# Altium integrated library Analog Devices Data Converters Analog-to-Digital Converters.IntLib: 2404 symbols (part 335 of 346)
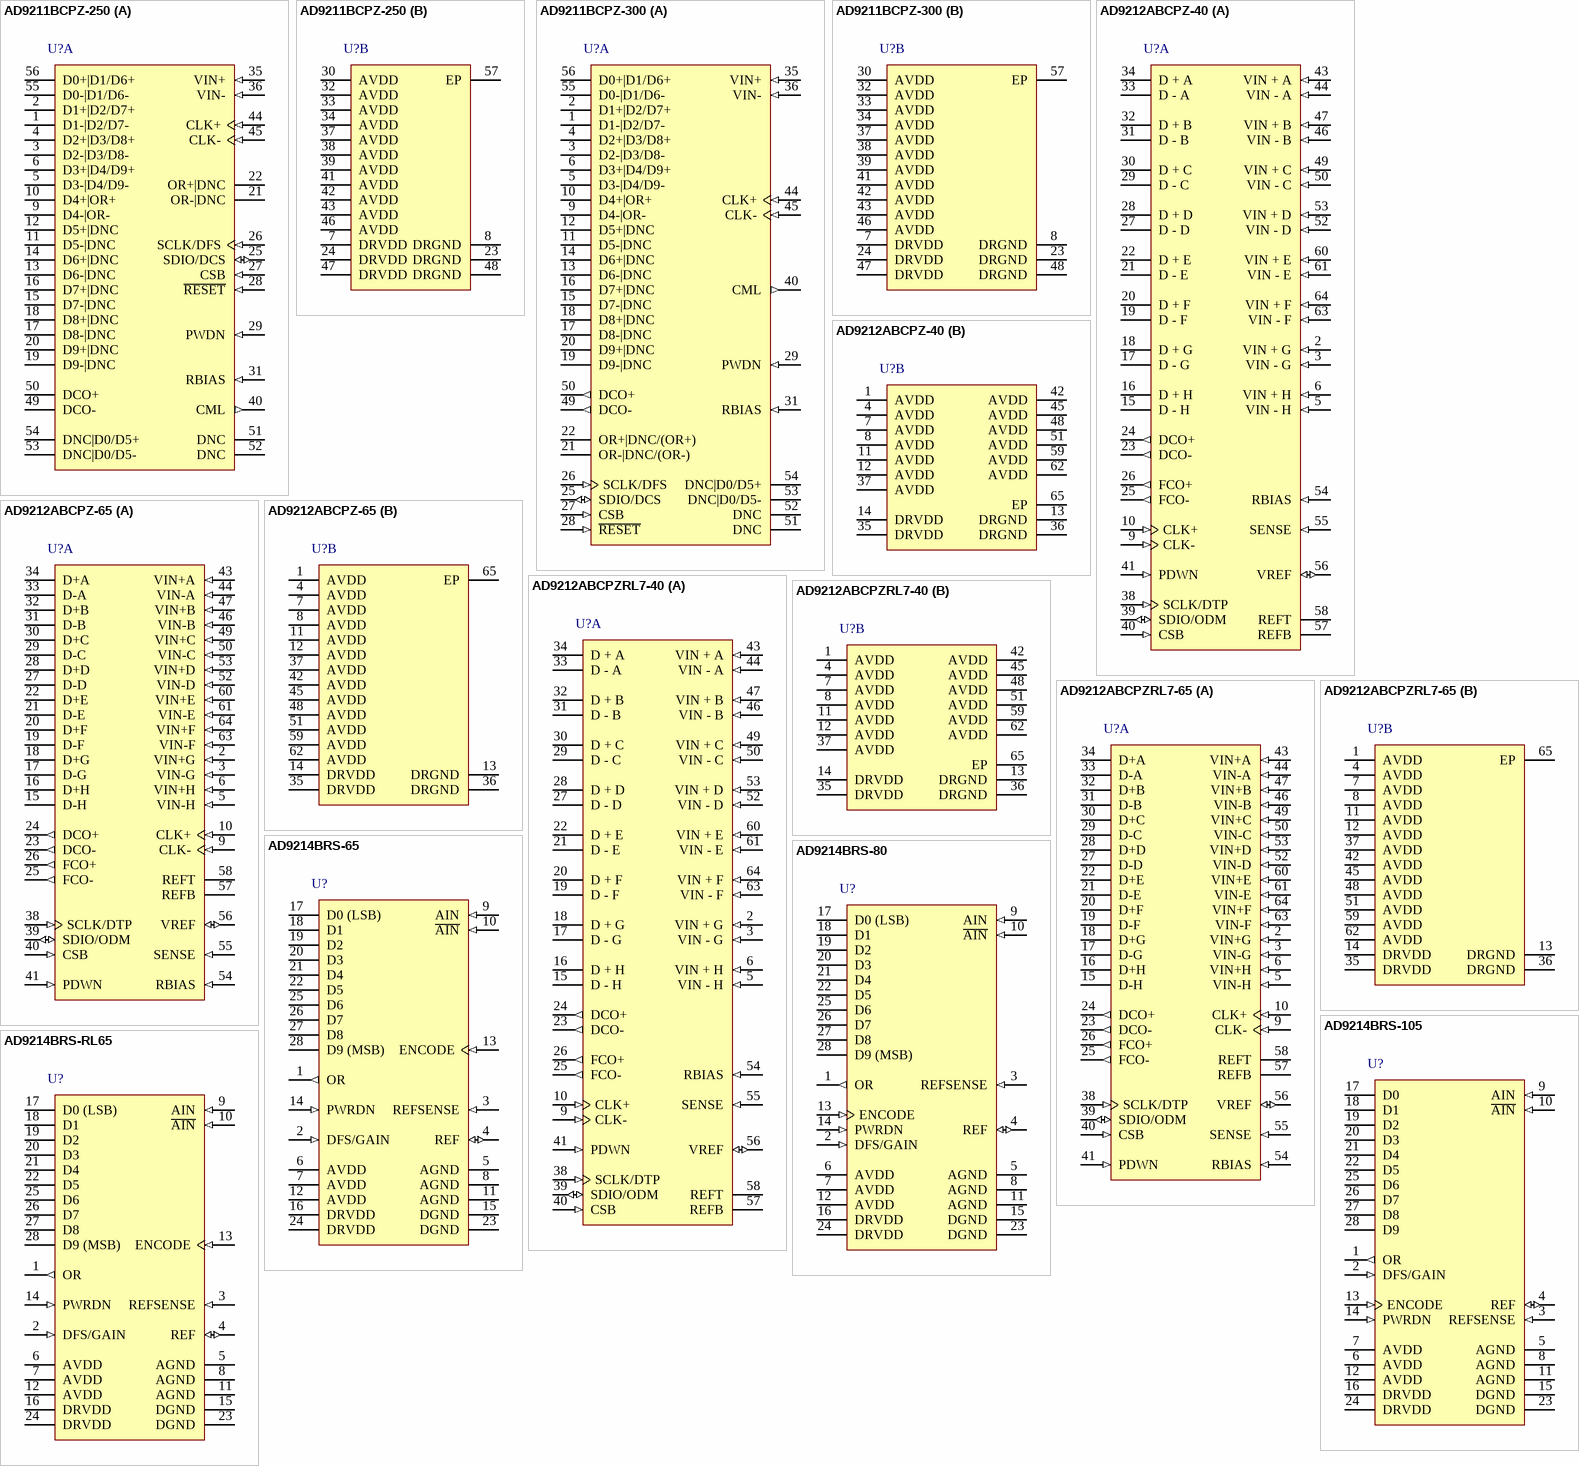
[diagram p334: symbols AD9211BCPZ-250 to AD9214BRS-RL65]

## AD9212ABCPZ-65
designator U?
Octal 10-Bit Analog-to-Digital Converter with LVDS, Serial Interface, 1.8 V 65MSPS, -40 to +85 degC, CP-64-6, Pb-Free, Tray; Generic Part Number: AD9212-65; Manufacturer: Analog Devices; PartNumber: AD9212ABCPZ-65; Resolution (Bits): 10; Channels: 8; Throughput Rate (SPS): 65M; DatasheetVersion: Rev.E; PackageVersion: 041509-A; PackageReference: CP-64-6; PackageDescription: 64-Lead Lead Frame Chip Scale Package [LFCSP_VQ] 9 x 9 mm Body, Very Thin Quad; Supplier 1: Digi-Key; Supplier Part Number 1: AD9212ABCPZ-65-ND; Supplier 2: Newark; Supplier Part Number 2: 70R1852; Supplier 3: Mouser; Supplier Part Number 3: 584-AD9212ABCPZ-65; Interface: LVDS, Ser; RoHS: Y; Packing: Tray; Mounting Technology: Surface Mount; Code_JEDEC: MO-220-VMMD-4; ComponentLink1Description: Manufacturer URL; ComponentLink1URL: http://www.analog.com/en/index.html; ComponentLink2Description: Datasheet; ComponentLink2URL: http://www.analog.com/static/imported-files/data_sheets/AD9212.pdf; ComponentLink3Description: Package Specification; ComponentLink3URL: http://www.analog.com/static/imported-files/packages/PKG_PDF/LFCSP(CP)/CP_64_6.pdf; ComponentLink4Description: Product URL; ComponentLink4URL: http://www.analog.com/en/analog-to-digital-converters/ad-converters/ad9212/products/product.html
footprint CP-64-6_N (QFN, 64-Leads, Body 9x9mm, Pitch 0.5mm, Thermal Pad 7.5x7.5mm, IPC Medium Density)
footprint CP-64-6_L (QFN, 64-Leads, Body 9x9mm, Pitch 0.5mm, Thermal Pad 7.5x7.5mm, IPC High Density)
footprint CP-64-6_M (QFN, 64-Leads, Body 9x9mm, Pitch 0.5mm, Thermal Pad 7.5x7.5mm, IPC Low Density)
part A pins: 2 VIN+G (in) "ADC G Analog Input True.", 3 VIN-G (in) "ADC G Analog Input Complement.", 5 VIN-H (in) "ADC H Analog Input Complement.", 6 VIN+H (in) "ADC H Analog Input True.", 9 CLK- (in) "Input Clock Complement", 10 CLK+ (in) "Input Clock True.", 15 D-H (hiz) "ADC H Digital Output Complement.", 16 D+H (hiz) "ADC H Digital Output True.", 17 D-G (hiz) "ADC G Digital Output Complement", 18 D+G (hiz) "ADC G Digital Output True.", 19 D-F (hiz) "ADC F Digital Output Complement", 20 D+F (hiz) "ADC F Digital Output True.", 21 D-E (hiz) "ADC E Digital Output Complement", 22 D+E (hiz) "ADC E Digital Output True.", 23 DCO- (out) "Data Clock Digital Output Complement", 24 DCO+ (out) "Data Clock Digital Output True.", 25 FCO- (out) "Frame Clock Digital Output Complement", 26 FCO+ (out) "Frame Clock Digital Output True.", 27 D-D (hiz) "ADC D Digital Output Complement", 28 D+D (hiz) "ADC D Digital Output True.", 29 D-C (hiz) "ADC C Digital Output Complement", 30 D+C (hiz) "ADC C Digital Output True.", 31 D-B (hiz) "ADC B Digital Output Complement", 32 D+B (hiz) "ADC B Digital Output True.", 33 D-A (hiz) "ADC A Digital Output Complement", 34 D+A (hiz) "ADC A Digital Output True.", 38 SCLK/DTP (in) "Serial Clock/Digital Test Pattern", 39 SDIO/ODM (io) "Serial Data Input-Output/Output Driver Mode", 40 CSB (in) "Chip Select Bar.", 41 PDWN (in) "Power-Down.", 43 VIN+A (in) "ADC A Analog Input True", 44 VIN-A (in) "ADC A Analog Input Complement.", 46 VIN-B (in) "ADC B Analog Input Complement", 47 VIN+B (in) "ADC B Analog Input True.", 49 VIN+C (in) "ADC C Analog Input True", 50 VIN-C (in) "ADC C Analog Input Complement.", 52 VIN-D (in) "ADC D Analog Input Complement", 53 VIN+D (in) "ADC D Analog Input True.", 54 RBIAS (in) "External Resistor to Set the Internal ADC Core Bias Current", 55 SENSE (in) "Reference Mode Selection", 56 VREF (io) "Voltage Reference Input/Output", 57 REFB "Negative Differential Reference", 58 REFT "Positive Differential Reference", 60 VIN+E (in) "ADC E Analog Input True", 61 VIN-E (in) "ADC E Analog Input Complement.", 63 VIN-F (in) "ADC F Analog Input Complement", 64 VIN+F (in) "ADC F Analog Input True."
part B pins: 1 AVDD (power) "1.8 V Analog Supply.", 4 AVDD (power) "1.8 V Analog Supply.", 7 AVDD (power) "1.8 V Analog Supply.", 8 AVDD (power) "1.8 V Analog Supply.", 11 AVDD (power) "1.8 V Analog Supply.", 12 AVDD (power) "1.8 V Analog Supply.", 13 DRGND (power) "Digital Output Driver Ground", 14 DRVDD (power) "1.8 V Digital Output Driver Supply.", 35 DRVDD (power) "1.8 V Digital Output Driver Supply.", 36 DRGND (power) "Digital Output Driver Ground", 37 AVDD (power) "1.8 V Analog Supply.", 42 AVDD (power) "1.8 V Analog Supply.", 45 AVDD (power) "1.8 V Analog Supply.", 48 AVDD (power) "1.8 V Analog Supply.", 51 AVDD (power) "1.8 V Analog Supply.", 59 AVDD (power) "1.8 V Analog Supply.", 62 AVDD (power) "1.8 V Analog Supply.", 65 EP (power) "Analog Ground (Exposed Paddle)"

## AD9212ABCPZRL7-40
designator U?
Octal 10-Bit Analog-to-Digital Converter with LVDS, Serial Interface, 1.8 V, 40MSPS, -40 to +85 degC, CP-64-6, Pb-Free, Reel; Generic Part Number: AD9212-40; Manufacturer: Analog Devices; PartNumber: AD9212ABCPZRL7-40; Resolution (Bits): 10; Channels: 8; Throughput Rate (SPS): 40M; DatasheetVersion: Rev.E; PackageVersion: 041509-A; PackageReference: CP-64-6; PackageDescription: 64-Lead Lead Frame Chip Scale Package [LFCSP_VQ] 9 x 9 mm Body, Very Thin Quad; Supplier 1: Digi-Key; Supplier Part Number 1: AD9212ABCPZRL7-40-ND; Supplier 2: Mouser; Supplier Part Number 2: 584-AD9212ABCPZR7-40; Interface: LVDS, Ser; RoHS: Y; Packing: Reel; Mounting Technology: Surface Mount; Code_JEDEC: MO-220-VMMD-4; ComponentLink1Description: Manufacturer URL; ComponentLink1URL: http://www.analog.com/en/index.html; ComponentLink2Description: Datasheet; ComponentLink2URL: http://www.analog.com/static/imported-files/data_sheets/AD9212.pdf; ComponentLink3Description: Package Specification; ComponentLink3URL: http://www.analog.com/static/imported-files/packages/PKG_PDF/LFCSP(CP)/CP_64_6.pdf; ComponentLink4Description: Product URL; ComponentLink4URL: http://www.analog.com/en/analog-to-digital-converters/ad-converters/ad9212/products/product.html
footprint CP-64-6_N (QFN, 64-Leads, Body 9x9mm, Pitch 0.5mm, Thermal Pad 7.5x7.5mm, IPC Medium Density)
footprint CP-64-6_L (QFN, 64-Leads, Body 9x9mm, Pitch 0.5mm, Thermal Pad 7.5x7.5mm, IPC High Density)
footprint CP-64-6_M (QFN, 64-Leads, Body 9x9mm, Pitch 0.5mm, Thermal Pad 7.5x7.5mm, IPC Low Density)
part A pins: 2 VIN + G (in) "ADC G Analog Input True", 3 VIN - G (in) "ADC G Analog Input Complement", 5 VIN - H (in) "ADC H Analog Input Complement", 6 VIN + H (in) "ADC H Analog Input True", 9 CLK- (in) "Input Clock Complement", 10 CLK+ (in) "Input Clock True", 15 D - H (hiz) "ADC H Digital Output Complement", 16 D + H (hiz) "ADC H Digital Output True", 17 D - G (hiz) "ADC G Digital Output Complement", 18 D + G (hiz) "ADC G Digital Output True", 19 D - F (hiz) "ADC F Digital Output Complement", 20 D + F (hiz) "ADC F Digital Output True", 21 D - E (hiz) "ADC E Digital Output Complement", 22 D + E (hiz) "ADC E Digital Output True", 23 DCO- (out) "Data Clock Digital Output Complement", 24 DCO+ (out) "Data Clock Digital Output True", 25 FCO- (out) "Frame Clock Digital Output Complement", 26 FCO+ (out) "Frame Clock Digital Output True", 27 D - D (hiz) "ADC D Digital Output Complement", 28 D + D (hiz) "ADC D Digital Output True", 29 D - C (hiz) "ADC C Digital Output Complement", 30 D + C (hiz) "ADC C Digital Output True", 31 D - B (hiz) "ADC B Digital Output Complement", 32 D + B (hiz) "ADC B Digital Output True", 33 D - A (hiz) "ADC A Digital Output Complement", 34 D + A (hiz) "ADC A Digital Output True", 38 SCLK/DTP (in) "Serial Clock/Digital Test Pattern", 39 SDIO/ODM (io) "Serial Data Input-Output/Output Driver Mode", 40 CSB (in) "Chip Select Bar", 41 PDWN (in) "Power-Down", 43 VIN + A (in) "ADC A Analog Input True", 44 VIN - A (in) "ADC A Analog Input Complement", 46 VIN - B (in) "ADC B Analog Input Complement", 47 VIN + B (in) "ADC B Analog Input True", 49 VIN + C (in) "ADC C Analog Input True", 50 VIN - C (in) "ADC C Analog Input Complement", 52 VIN - D (in) "ADC D Analog Input Complement", 53 VIN + D (in) "ADC D Analog Input True", 54 RBIAS (in) "External Resistor to Set the Internal ADC Core Bias Current", 55 SENSE (in) "Reference Mode Selection", 56 VREF (io) "Voltage Reference Input/Output", 57 REFB "Negative Differential Reference", 58 REFT "Positive Differential Reference", 60 VIN + E (in) "ADC E Analog Input True", 61 VIN - E (in) "ADC E Analog Input Complement", 63 VIN - F (in) "ADC F Analog Input Complement", 64 VIN + F (in) "ADC F Analog Input True"
part B pins: 1 AVDD (power) "1.8 V Analog Supply", 4 AVDD (power) "1.8 V Analog Supply", 7 AVDD (power) "1.8 V Analog Supply", 8 AVDD (power) "1.8 V Analog Supply", 11 AVDD (power) "1.8 V Analog Supply", 12 AVDD (power) "1.8 V Analog Supply", 13 DRGND (power) "Digital Output Driver Ground", 14 DRVDD (power) "1.8 V Digital Output Driver Supply", 35 DRVDD (power) "1.8 V Digital Output Driver Supply", 36 DRGND (power) "Digital Output Driver Ground", 37 AVDD (power) "1.8 V Analog Supply", 42 AVDD (power) "1.8 V Analog Supply", 45 AVDD (power) "1.8 V Analog Supply", 48 AVDD (power) "1.8 V Analog Supply", 51 AVDD (power) "1.8 V Analog Supply", 59 AVDD (power) "1.8 V Analog Supply", 62 AVDD (power) "1.8 V Analog Supply", 65 EP (power) "Analog Ground (Exposed Paddle)"

## AD9212ABCPZRL7-65
designator U?
Octal 10-Bit Analog-to-Digital Converter with LVDS, Serial Interface, 1.8 V, 65MSPS, -40 to +85 degC, CP-64-6, Pb-Free, Reel; Generic Part Number: AD9212-65; Manufacturer: Analog Devices; PartNumber: AD9212ABCPZRL7-65; Resolution (Bits): 10; Channels: 8; Throughput Rate (SPS): 65M; DatasheetVersion: Rev.E; PackageVersion: 041509-A; PackageReference: CP-64-6; PackageDescription: 64-Lead Lead Frame Chip Scale Package [LFCSP_VQ] 9 x 9 mm Body, Very Thin Quad; Supplier 1: Digi-Key; Supplier Part Number 1: AD9212ABCPZRL7-65-ND; Supplier 2: Mouser; Supplier Part Number 2: 584-AD9212ABCPZR7-65; Interface: LVDS, Ser; RoHS: Y; Packing: Reel; Mounting Technology: Surface Mount; Code_JEDEC: MO-220-VMMD-4; ComponentLink1Description: Manufacturer URL; ComponentLink1URL: http://www.analog.com/en/index.html; ComponentLink2Description: Datasheet; ComponentLink2URL: http://www.analog.com/static/imported-files/data_sheets/AD9212.pdf; ComponentLink3Description: Package Specification; ComponentLink3URL: http://www.analog.com/static/imported-files/packages/PKG_PDF/LFCSP(CP)/CP_64_6.pdf; ComponentLink4Description: Product URL; ComponentLink4URL: http://www.analog.com/en/analog-to-digital-converters/ad-converters/ad9212/products/product.html
footprint CP-64-6_N (QFN, 64-Leads, Body 9x9mm, Pitch 0.5mm, Thermal Pad 7.5x7.5mm, IPC Medium Density)
footprint CP-64-6_L (QFN, 64-Leads, Body 9x9mm, Pitch 0.5mm, Thermal Pad 7.5x7.5mm, IPC High Density)
footprint CP-64-6_M (QFN, 64-Leads, Body 9x9mm, Pitch 0.5mm, Thermal Pad 7.5x7.5mm, IPC Low Density)
part A pins: 2 VIN+G (in) "ADC G Analog Input True.", 3 VIN-G (in) "ADC G Analog Input Complement.", 5 VIN-H (in) "ADC H Analog Input Complement.", 6 VIN+H (in) "ADC H Analog Input True.", 9 CLK- (in) "Input Clock Complement", 10 CLK+ (in) "Input Clock True.", 15 D-H (hiz) "ADC H Digital Output Complement.", 16 D+H (hiz) "ADC H Digital Output True.", 17 D-G (hiz) "ADC G Digital Output Complement", 18 D+G (hiz) "ADC G Digital Output True.", 19 D-F (hiz) "ADC F Digital Output Complement", 20 D+F (hiz) "ADC F Digital Output True.", 21 D-E (hiz) "ADC E Digital Output Complement", 22 D+E (hiz) "ADC E Digital Output True.", 23 DCO- (out) "Data Clock Digital Output Complement", 24 DCO+ (out) "Data Clock Digital Output True.", 25 FCO- (out) "Frame Clock Digital Output Complement", 26 FCO+ (out) "Frame Clock Digital Output True.", 27 D-D (hiz) "ADC D Digital Output Complement", 28 D+D (hiz) "ADC D Digital Output True.", 29 D-C (hiz) "ADC C Digital Output Complement", 30 D+C (hiz) "ADC C Digital Output True.", 31 D-B (hiz) "ADC B Digital Output Complement", 32 D+B (hiz) "ADC B Digital Output True.", 33 D-A (hiz) "ADC A Digital Output Complement", 34 D+A (hiz) "ADC A Digital Output True.", 38 SCLK/DTP (in) "Serial Clock/Digital Test Pattern", 39 SDIO/ODM (io) "Serial Data Input-Output/Output Driver Mode", 40 CSB (in) "Chip Select Bar.", 41 PDWN (in) "Power-Down.", 43 VIN+A (in) "ADC A Analog Input True", 44 VIN-A (in) "ADC A Analog Input Complement.", 46 VIN-B (in) "ADC B Analog Input Complement", 47 VIN+B (in) "ADC B Analog Input True.", 49 VIN+C (in) "ADC C Analog Input True", 50 VIN-C (in) "ADC C Analog Input Complement.", 52 VIN-D (in) "ADC D Analog Input Complement", 53 VIN+D (in) "ADC D Analog Input True.", 54 RBIAS (in) "External Resistor to Set the Internal ADC Core Bias Current", 55 SENSE (in) "Reference Mode Selection", 56 VREF (io) "Voltage Reference Input/Output", 57 REFB "Negative Differential Reference", 58 REFT "Positive Differential Reference", 60 VIN+E (in) "ADC E Analog Input True", 61 VIN-E (in) "ADC E Analog Input Complement.", 63 VIN-F (in) "ADC F Analog Input Complement", 64 VIN+F (in) "ADC F Analog Input True."
part B pins: 1 AVDD (power) "1.8 V Analog Supply.", 4 AVDD (power) "1.8 V Analog Supply.", 7 AVDD (power) "1.8 V Analog Supply.", 8 AVDD (power) "1.8 V Analog Supply.", 11 AVDD (power) "1.8 V Analog Supply.", 12 AVDD (power) "1.8 V Analog Supply.", 13 DRGND (power) "Digital Output Driver Ground", 14 DRVDD (power) "1.8 V Digital Output Driver Supply.", 35 DRVDD (power) "1.8 V Digital Output Driver Supply.", 36 DRGND (power) "Digital Output Driver Ground", 37 AVDD (power) "1.8 V Analog Supply.", 42 AVDD (power) "1.8 V Analog Supply.", 45 AVDD (power) "1.8 V Analog Supply.", 48 AVDD (power) "1.8 V Analog Supply.", 51 AVDD (power) "1.8 V Analog Supply.", 59 AVDD (power) "1.8 V Analog Supply.", 62 AVDD (power) "1.8 V Analog Supply.", 65 EP (power) "Analog Ground (Exposed Paddle)"

## AD9214BRS-65
designator U?
Single 10-Bit Analog-to-Digital Converter with Parallel Interface, 65MSPS, -40 to +85 degC, RS-28, Tube; Generic Part Number: AD9214-65; Manufacturer: Analog Devices; PartNumber: AD9214BRS-65; Resolution (Bits): 10; Channels: 1; Throughput Rate (SPS): 65M; Interface: Par; DatasheetVersion: Rev.D; PackageVersion: 060106-A; PackageReference: RS-28; PackageDescription: 28-Lead Shrink Small Outline Package [SSOP]; Supplier 1: Digi-Key; Supplier Part Number 1: AD9214BRS-65-ND; RoHS: N; Packing: Tube; Mounting Technology: Surface Mount; Code_JEDEC: MO-150-AH; ComponentLink1Description: Manufacturer URL; ComponentLink1URL: http://www.analog.com/en/index.html; ComponentLink2Description: Datasheet; ComponentLink2URL: http://www.analog.com/static/imported-files/data_sheets/AD9214.pdf; ComponentLink3Description: Package Specification; ComponentLink3URL: http://www.analog.com/static/imported-files/packages/32122249223724RS_28.pdf; ComponentLink4Description: Product URL; ComponentLink4URL: http://www.analog.com/en/analog-to-digital-converters/ad-converters/ad9214/products/product.html
footprint RS-28_N (SOP, 28-Leads, Body 10.2x5.3mm, Pitch 0.65mm, IPC Medium Density)
footprint RS-28_L (SOP, 28-Leads, Body 10.2x5.3mm, Pitch 0.65mm, IPC High Density)
footprint RS-28_M (SOP, 28-Leads, Body 10.2x5.3mm, Pitch 0.65mm, IPC Low Density)
pins: 1 OR (out) "CMOS Output; Out-of-Range Indicator. Logic HIGH indicates the analog input voltage was outside the converter's range for the current output data.", 2 DFS/GAIN (in) "Data Format Select and Gain Mode Select. Connect externally to AVDD for two's complement data format and 1 V p-p analog input range. Connect externally to AGND for Offset Binary data format and 1 V p-p analog input range. (See Datasheet)", 3 REFSENSE (in) "Reference Mode Select Pin for the ADC. This pin is normally connected externally to AGND, which enables the internal 1.25 V reference, and configures REF (Pin 4) as an analog reference output pin. Connecting REFSENSE (See Datasheet)", 4 REF (io) "Reference input or output as configured by REFSENSE (Pin 3). When configured as an output (REFSENSE = AGND), the internal reference (nominally 1.25 V) is enabled and is available to the user on this pin. When configured as (See Datasheet)", 5 AGND (power) "Analog Ground", 6 AVDD (power) "Analog Power Supply, Nominally 3 V", 7 AVDD (power) "Analog Power Supply, Nominally 3 V", 8 AGND (power) "Analog Ground", 9 AIN (in) "Positive terminal of the differential analog input for the ADC.", 10 ~{AIN} (in) "Negative terminal of the differential analog input for the ADC. This pin can be left open if operating in single-ended mode, but it is preferable to match the impedance seen at the positive terminal (see Driving the Analog (See Datasheet)", 11 AGND (power) "Analog Ground", 12 AVDD (power) "Analog Power Supply, Nominally 3 V", 13 ENCODE (in) "Encode Clock for the ADC. The AD9214 samples the analog signal on the rising edge of ENCODE.", 14 PWRDN (in) "CMOS-compatible power-down mode select, Logic LOW for normal operation; Logic HIGH for power-down mode (digital outputs in high impedance state). PWRDN has an internal 10 k ohm pull-down resistor to ground.", 15 DGND (power) "Digital Output Ground", 16 DRVDD (power) "Digital Output Driver Power Supply. Nominally 2.5 V to 3.6 V.", 17 D0 (LSB) (hiz) "CMOS Digital Outputs of ADC", 18 D1 (hiz) "CMOS Digital Outputs of ADC", 19 D2 (hiz) "CMOS Digital Outputs of ADC", 20 D3 (hiz) "CMOS Digital Outputs of ADC", 21 D4 (hiz) "CMOS Digital Outputs of ADC", 22 D5 (hiz) "CMOS Digital Outputs of ADC", 23 DGND (power) "Digital Output Ground", 24 DRVDD (power) "Digital Output Driver Power Supply. Nominally 2.5 V to 3.6 V.", 25 D6 (hiz) "CMOS Digital Outputs of ADC", 26 D7 (hiz) "CMOS Digital Outputs of ADC", 27 D8 (hiz) "CMOS Digital Outputs of ADC", 28 D9 (MSB) (hiz) "CMOS Digital Outputs of ADC"

## AD9214BRS-80
designator U?
Single 10-Bit Analog-to-Digital Converter with Parallel Interface, 80MSPS, -40 to +85 degC, RS-28, Tube; Generic Part Number: AD9214-80; Manufacturer: Analog Devices; PartNumber: AD9214BRS-80; Resolution (Bits): 10; Channels: 1; Throughput Rate (SPS): 80M; Interface: Par; DatasheetVersion: Rev.D; PackageVersion: 060106-A; PackageReference: RS-28; PackageDescription: 28-Lead Shrink Small Outline Package [SSOP]; Supplier 1: Digi-Key; Supplier Part Number 1: AD9214BRS-80-ND; RoHS: N; Packing: Tube; Mounting Technology: Surface Mount; Code_JEDEC: MO-150-AH; ComponentLink1Description: Manufacturer URL; ComponentLink1URL: http://www.analog.com/en/index.html; ComponentLink2Description: Datasheet; ComponentLink2URL: http://www.analog.com/static/imported-files/data_sheets/AD9214.pdf; ComponentLink3Description: Package Specification; ComponentLink3URL: http://www.analog.com/static/imported-files/packages/32122249223724RS_28.pdf; ComponentLink4Description: Product URL; ComponentLink4URL: http://www.analog.com/en/analog-to-digital-converters/ad-converters/ad9214/products/product.html
footprint RS-28_N (SOP, 28-Leads, Body 10.2x5.3mm, Pitch 0.65mm, IPC Medium Density)
footprint RS-28_L (SOP, 28-Leads, Body 10.2x5.3mm, Pitch 0.65mm, IPC High Density)
footprint RS-28_M (SOP, 28-Leads, Body 10.2x5.3mm, Pitch 0.65mm, IPC Low Density)
pins: 1 OR (out) "CMOS Output; Out-of-Range Indicator. Logic HIGH indicates the analog input voltage was outside the converter's range for the current output data.", 2 DFS/GAIN (in) "Data Format Select and Gain Mode Select. Connect externally to AVDD for two's complement data format and 1 V p-p analog input range. Connect externally to AGND for Offset Binary data format and 1 V p-p analog input range. (See Datasheet)", 3 REFSENSE (in) "Reference Mode Select Pin for the ADC. This pin is normally connected externally to AGND, which enables the internal 1.25 V reference, and configures REF (Pin 4) as an analog reference output pin. Connecting REFSENSE (See Datasheet)", 4 REF (io) "Reference input or output as configured by REFSENSE (Pin 3). When configured as an output (REFSENSE = AGND), the internal reference (nominally 1.25 V) is enabled and is available to the user on this pin. When configured as (See Datasheet)", 5 AGND (power) "Analog Ground", 6 AVDD (power) "Analog Power Supply, Nominally 3 V", 7 AVDD (power) "Analog Power Supply, Nominally 3 V", 8 AGND (power) "Analog Ground", 9 AIN (in) "Positive terminal of the differential analog input for the ADC.", 10 ~{AIN} (in) "Negative terminal of the differential analog input for the ADC. This pin can be left open if operating in single-ended mode, but it is preferable to match the impedance seen at the positive terminal (see Driving the Analog (See Datasheet)", 11 AGND (power) "Analog Ground", 12 AVDD (power) "Analog Power Supply, Nominally 3 V", 13 ENCODE (in) "Encode Clock for the ADC. The AD9214 samples the analog signal on the rising edge of ENCODE.", 14 PWRDN (in) "CMOS-compatible power-down mode select, Logic LOW for normal operation; Logic HIGH for power-down mode (digital outputs in high impedance state). PWRDN has an internal 10 k ohm pull-down resistor to ground.", 15 DGND (power) "Digital Output Ground", 16 DRVDD (power) "Digital Output Driver Power Supply. Nominally 2.5 V to 3.6 V.", 17 D0 (LSB) (hiz) "CMOS Digital Outputs of ADC", 18 D1 (hiz) "CMOS Digital Outputs of ADC", 19 D2 (hiz) "CMOS Digital Outputs of ADC", 20 D3 (hiz) "CMOS Digital Outputs of ADC", 21 D4 (hiz) "CMOS Digital Outputs of ADC", 22 D5 (hiz) "CMOS Digital Outputs of ADC", 23 DGND (power) "Digital Output Ground", 24 DRVDD (power) "Digital Output Driver Power Supply. Nominally 2.5 V to 3.6 V.", 25 D6 (hiz) "CMOS Digital Outputs of ADC", 26 D7 (hiz) "CMOS Digital Outputs of ADC", 27 D8 (hiz) "CMOS Digital Outputs of ADC", 28 D9 (MSB) (hiz) "CMOS Digital Outputs of ADC"

## AD9214BRS-105
designator U?
Single 10-Bit Analog-to-Digital Converter with Parallel Interface, 105MSPS, -40 to +85 degC, RS-28, Tube; Generic Part Number: AD9214-105; Manufacturer: Analog Devices; PartNumber: AD9214BRS-105; Resolution (Bits): 10; Channels: 1; Throughput Rate (SPS): 105M; Interface: Par; DatasheetVersion: Rev.D; PackageVersion: 060106-A; PackageReference: RS-28; PackageDescription: 28-Lead Shrink Small Outline Package [SSOP]; Supplier 1: Digi-Key; Supplier Part Number 1: AD9214BRS-105-ND; RoHS: N; Packing: Tube; Mounting Technology: Surface Mount; Code_JEDEC: MO-150-AH; ComponentLink1Description: Manufacturer URL; ComponentLink1URL: http://www.analog.com/en/index.html; ComponentLink2Description: Datasheet; ComponentLink2URL: http://www.analog.com/static/imported-files/data_sheets/AD9214.pdf; ComponentLink3Description: Package Specification; ComponentLink3URL: http://www.analog.com/static/imported-files/packages/32122249223724RS_28.pdf; ComponentLink4Description: Product URL; ComponentLink4URL: http://www.analog.com/en/analog-to-digital-converters/ad-converters/ad9214/products/product.html
footprint RS-28_N (SOP, 28-Leads, Body 10.2x5.3mm, Pitch 0.65mm, IPC Medium Density)
footprint RS-28_L (SOP, 28-Leads, Body 10.2x5.3mm, Pitch 0.65mm, IPC High Density)
footprint RS-28_M (SOP, 28-Leads, Body 10.2x5.3mm, Pitch 0.65mm, IPC Low Density)
pins: 1 OR (out) "CMOS Output; Out-of-Range Indicator. Logic HIGH indicates the analog input voltage was outside the converter’s range for the current output data.", 2 DFS/GAIN (in) "Data Format Select and Gain Mode Select. Connect externally to AVDD for two’s complement data format and 1 V p-p analog input range. Connect externally to AGND for Offset Binary data format and 1 V p-p analog input range. (See Datasheet)", 3 REFSENSE (in) "Reference Mode Select Pin for the ADC. This pin is normally connected externally to AGND, which enables the internal 1.25 V reference, and configures REF (Pin 4) as an analog reference output pin. Connecting REFSENSE (See Datasheet)", 4 REF (io) "Reference input or output as configured by REFSENSE (Pin 3). When configured as an output (REFSENSE = AGND), the internal reference (nominally 1.25 V) is enabled and is available to the user on this pin. When configured as (See Datasheet)", 5 AGND (power) "Analog Ground", 6 AVDD (power) "Analog Power Supply, Nominally 3 V", 7 AVDD (power) "Analog Power Supply, Nominally 3 V", 8 AGND (power) "Analog Ground", 9 AIN (in) "Positive terminal of the differential analog input for the ADC.", 10 ~{AIN} (in) "Negative terminal of the differential analog input for the ADC. This pin can be left open if operating in single-ended mode, but it is preferable to match the impedance seen at the positive terminal (see Driving the Analog (See Datasheet)", 11 AGND (power) "Analog Ground", 12 AVDD (power) "Analog Power Supply, Nominally 3 V", 13 ENCODE (in) "Encode Clock for the ADC. The AD9214 samples the analog signal on the rising edge of ENCODE.", 14 PWRDN (in) "CMOS-compatible power-down mode select, Logic LOW for normal operation; Logic HIGH for power-down mode (digital outputs in high impedance state). PWRDN has an internal 10 kO pull-down resistor to ground.", 15 DGND (power) "Digital Output Ground", 16 DRVDD (power) "Digital Output Driver Power Supply. Nominally 2.5 V to 3.6 V.", 17 D0 (hiz) "CMOS Digital Outputs of ADC", 18 D1 (hiz) "CMOS Digital Outputs of ADC", 19 D2 (hiz) "CMOS Digital Outputs of ADC", 20 D3 (hiz) "CMOS Digital Outputs of ADC", 21 D4 (hiz) "CMOS Digital Outputs of ADC", 22 D5 (hiz) "CMOS Digital Outputs of ADC", 23 DGND (power) "Digital Output Ground", 24 DRVDD (power) "Digital Output Driver Power Supply. Nominally 2.5 V to 3.6 V.", 25 D6 (hiz) "CMOS Digital Outputs of ADC", 26 D7 (hiz) "CMOS Digital Outputs of ADC", 27 D8 (hiz) "CMOS Digital Outputs of ADC", 28 D9 (hiz) "CMOS Digital Outputs of ADC"

## AD9214BRS-RL65
designator U?
Single 10-Bit Analog-to-Digital Converter with Parallel Interface, 65MSPS, -40 to +85 degC, RS-28, Reel; Generic Part Number: AD9214-65; Manufacturer: Analog Devices; PartNumber: AD9214BRS-RL65; Resolution (Bits): 10; Channels: 1; Throughput Rate (SPS): 65M; Interface: Par; DatasheetVersion: Rev.D; PackageVersion: 060106-A; PackageReference: RS-28; PackageDescription: 28-Lead Shrink Small Outline Package [SSOP]; Supplier 1: Digi-Key; Supplier Part Number 1: AD9214BRS-RL65-ND; RoHS: N; Packing: Reel; Mounting Technology: Surface Mount; Code_JEDEC: MO-150-AH; ComponentLink1Description: Manufacturer URL; ComponentLink1URL: http://www.analog.com/en/index.html; ComponentLink2Description: Datasheet; ComponentLink2URL: http://www.analog.com/static/imported-files/data_sheets/AD9214.pdf; ComponentLink3Description: Package Specification; ComponentLink3URL: http://www.analog.com/static/imported-files/packages/32122249223724RS_28.pdf; ComponentLink4Description: Product URL; ComponentLink4URL: http://www.analog.com/en/analog-to-digital-converters/ad-converters/ad9214/products/product.html
footprint RS-28_N (SOP, 28-Leads, Body 10.2x5.3mm, Pitch 0.65mm, IPC Medium Density)
footprint RS-28_L (SOP, 28-Leads, Body 10.2x5.3mm, Pitch 0.65mm, IPC High Density)
footprint RS-28_M (SOP, 28-Leads, Body 10.2x5.3mm, Pitch 0.65mm, IPC Low Density)
pins: 1 OR (out) "CMOS Output; Out-of-Range Indicator. Logic HIGH indicates the analog input voltage was outside the converter's range for the current output data.", 2 DFS/GAIN (in) "Data Format Select and Gain Mode Select. Connect externally to AVDD for two's complement data format and 1 V p-p analog input range. Connect externally to AGND for Offset Binary data format and 1 V p-p analog input range. (See Datasheet)", 3 REFSENSE (in) "Reference Mode Select Pin for the ADC. This pin is normally connected externally to AGND, which enables the internal 1.25 V reference, and configures REF (Pin 4) as an analog reference output pin. Connecting REFSENSE (See Datasheet)", 4 REF (io) "Reference input or output as configured by REFSENSE (Pin 3). When configured as an output (REFSENSE = AGND), the internal reference (nominally 1.25 V) is enabled and is available to the user on this pin. When configured as (See Datasheet)", 5 AGND (power) "Analog Ground", 6 AVDD (power) "Analog Power Supply, Nominally 3 V", 7 AVDD (power) "Analog Power Supply, Nominally 3 V", 8 AGND (power) "Analog Ground", 9 AIN (in) "Positive terminal of the differential analog input for the ADC.", 10 ~{AIN} (in) "Negative terminal of the differential analog input for the ADC. This pin can be left open if operating in single-ended mode, but it is preferable to match the impedance seen at the positive terminal (see Driving the Analog (See Datasheet)", 11 AGND (power) "Analog Ground", 12 AVDD (power) "Analog Power Supply, Nominally 3 V", 13 ENCODE (in) "Encode Clock for the ADC. The AD9214 samples the analog signal on the rising edge of ENCODE.", 14 PWRDN (in) "CMOS-compatible power-down mode select, Logic LOW for normal operation; Logic HIGH for power-down mode (digital outputs in high impedance state). PWRDN has an internal 10 k ohm pull-down resistor to ground.", 15 DGND (power) "Digital Output Ground", 16 DRVDD (power) "Digital Output Driver Power Supply. Nominally 2.5 V to 3.6 V.", 17 D0 (LSB) (hiz) "CMOS Digital Outputs of ADC", 18 D1 (hiz) "CMOS Digital Outputs of ADC", 19 D2 (hiz) "CMOS Digital Outputs of ADC", 20 D3 (hiz) "CMOS Digital Outputs of ADC", 21 D4 (hiz) "CMOS Digital Outputs of ADC", 22 D5 (hiz) "CMOS Digital Outputs of ADC", 23 DGND (power) "Digital Output Ground", 24 DRVDD (power) "Digital Output Driver Power Supply. Nominally 2.5 V to 3.6 V.", 25 D6 (hiz) "CMOS Digital Outputs of ADC", 26 D7 (hiz) "CMOS Digital Outputs of ADC", 27 D8 (hiz) "CMOS Digital Outputs of ADC", 28 D9 (MSB) (hiz) "CMOS Digital Outputs of ADC"

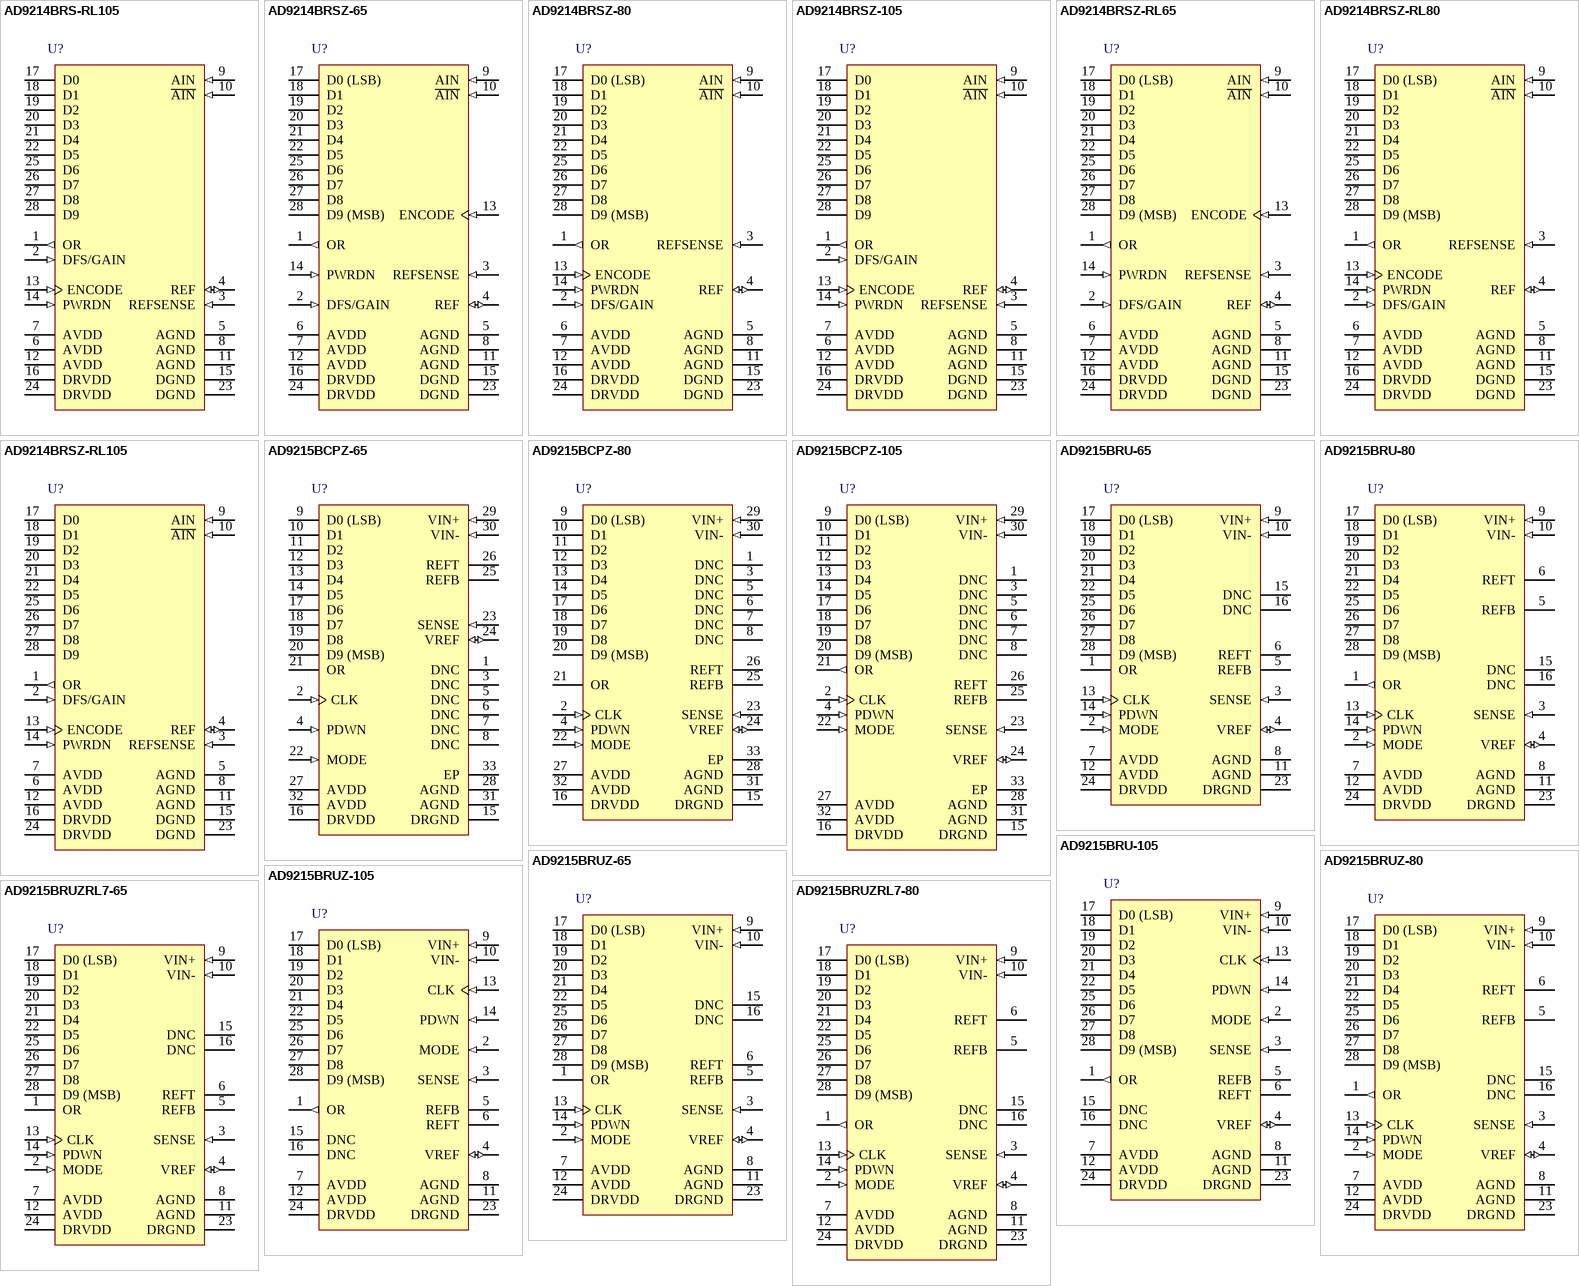
[diagram p100: symbols AD9214BRS-RL105 to AD9215BRUZRL7-80]

## AD9214BRS-RL105
designator U?
Single 10-Bit Analog-to-Digital Converter with Parallel Interface, 105MSPS, -40 to +85 degC, RS-28, Reel; Generic Part Number: AD9214-105; Manufacturer: Analog Devices; PartNumber: AD9214BRS-RL105; Resolution (Bits): 10; Channels: 1; Throughput Rate (SPS): 105M; Interface: Par; DatasheetVersion: Rev.D; PackageVersion: 060106-A; PackageReference: RS-28; PackageDescription: 28-Lead Shrink Small Outline Package [SSOP]; Supplier 1: Digi-Key; Supplier Part Number 1: AD9214BRS-RL105-ND; RoHS: N; Packing: Reel; Mounting Technology: Surface Mount; Code_JEDEC: MO-150-AH; ComponentLink1Description: Manufacturer URL; ComponentLink1URL: http://www.analog.com/en/index.html; ComponentLink2Description: Datasheet; ComponentLink2URL: http://www.analog.com/static/imported-files/data_sheets/AD9214.pdf; ComponentLink3Description: Package Specification; ComponentLink3URL: http://www.analog.com/static/imported-files/packages/32122249223724RS_28.pdf; ComponentLink4Description: Product URL; ComponentLink4URL: http://www.analog.com/en/analog-to-digital-converters/ad-converters/ad9214/products/product.html
footprint RS-28_N (SOP, 28-Leads, Body 10.2x5.3mm, Pitch 0.65mm, IPC Medium Density)
footprint RS-28_L (SOP, 28-Leads, Body 10.2x5.3mm, Pitch 0.65mm, IPC High Density)
footprint RS-28_M (SOP, 28-Leads, Body 10.2x5.3mm, Pitch 0.65mm, IPC Low Density)
pins: 1 OR (out) "CMOS Output; Out-of-Range Indicator. Logic HIGH indicates the analog input voltage was outside the converter’s range for the current output data.", 2 DFS/GAIN (in) "Data Format Select and Gain Mode Select. Connect externally to AVDD for two’s complement data format and 1 V p-p analog input range. Connect externally to AGND for Offset Binary data format and 1 V p-p analog input range. (See Datasheet)", 3 REFSENSE (in) "Reference Mode Select Pin for the ADC. This pin is normally connected externally to AGND, which enables the internal 1.25 V reference, and configures REF (Pin 4) as an analog reference output pin. Connecting REFSENSE (See Datasheet)", 4 REF (io) "Reference input or output as configured by REFSENSE (Pin 3). When configured as an output (REFSENSE = AGND), the internal reference (nominally 1.25 V) is enabled and is available to the user on this pin. When configured as (See Datasheet)", 5 AGND (power) "Analog Ground", 6 AVDD (power) "Analog Power Supply, Nominally 3 V", 7 AVDD (power) "Analog Power Supply, Nominally 3 V", 8 AGND (power) "Analog Ground", 9 AIN (in) "Positive terminal of the differential analog input for the ADC.", 10 ~{AIN} (in) "Negative terminal of the differential analog input for the ADC. This pin can be left open if operating in single-ended mode, but it is preferable to match the impedance seen at the positive terminal (see Driving the Analog (See Datasheet)", 11 AGND (power) "Analog Ground", 12 AVDD (power) "Analog Power Supply, Nominally 3 V", 13 ENCODE (in) "Encode Clock for the ADC. The AD9214 samples the analog signal on the rising edge of ENCODE.", 14 PWRDN (in) "CMOS-compatible power-down mode select, Logic LOW for normal operation; Logic HIGH for power-down mode (digital outputs in high impedance state). PWRDN has an internal 10 kO pull-down resistor to ground.", 15 DGND (power) "Digital Output Ground", 16 DRVDD (power) "Digital Output Driver Power Supply. Nominally 2.5 V to 3.6 V.", 17 D0 (hiz) "CMOS Digital Outputs of ADC", 18 D1 (hiz) "CMOS Digital Outputs of ADC", 19 D2 (hiz) "CMOS Digital Outputs of ADC", 20 D3 (hiz) "CMOS Digital Outputs of ADC", 21 D4 (hiz) "CMOS Digital Outputs of ADC", 22 D5 (hiz) "CMOS Digital Outputs of ADC", 23 DGND (power) "Digital Output Ground", 24 DRVDD (power) "Digital Output Driver Power Supply. Nominally 2.5 V to 3.6 V.", 25 D6 (hiz) "CMOS Digital Outputs of ADC", 26 D7 (hiz) "CMOS Digital Outputs of ADC", 27 D8 (hiz) "CMOS Digital Outputs of ADC", 28 D9 (hiz) "CMOS Digital Outputs of ADC"

## AD9214BRSZ-65
designator U?
Single 10-Bit Analog-to-Digital Converter with Parallel Interface, 65MSPS, -40 to +85 degC, RS-28, Pb-Free, Tube; Generic Part Number: AD9214-65; Manufacturer: Analog Devices; PartNumber: AD9214BRSZ-65; Resolution (Bits): 10; Channels: 1; Throughput Rate (SPS): 65M; Interface: Par; DatasheetVersion: Rev.D; PackageVersion: 060106-A; PackageReference: RS-28; PackageDescription: 28-Lead Shrink Small Outline Package [SSOP]; Supplier 1: Digi-Key; Supplier Part Number 1: AD9214BRSZ-65-ND; Supplier 2: Newark; Supplier Part Number 2: 82H3055; Supplier 3: Mouser; Supplier Part Number 3: 584-AD9214BRSZ-65; RoHS: Y; Packing: Tube; Mounting Technology: Surface Mount; Code_JEDEC: MO-150-AH; ComponentLink1Description: Manufacturer URL; ComponentLink1URL: http://www.analog.com/en/index.html; ComponentLink2Description: Datasheet; ComponentLink2URL: http://www.analog.com/static/imported-files/data_sheets/AD9214.pdf; ComponentLink3Description: Package Specification; ComponentLink3URL: http://www.analog.com/static/imported-files/packages/32122249223724RS_28.pdf; ComponentLink4Description: Product URL; ComponentLink4URL: http://www.analog.com/en/analog-to-digital-converters/ad-converters/ad9214/products/product.html
footprint RS-28_N (SOP, 28-Leads, Body 10.2x5.3mm, Pitch 0.65mm, IPC Medium Density)
footprint RS-28_L (SOP, 28-Leads, Body 10.2x5.3mm, Pitch 0.65mm, IPC High Density)
footprint RS-28_M (SOP, 28-Leads, Body 10.2x5.3mm, Pitch 0.65mm, IPC Low Density)
pins: 1 OR (out) "CMOS Output; Out-of-Range Indicator. Logic HIGH indicates the analog input voltage was outside the converter's range for the current output data.", 2 DFS/GAIN (in) "Data Format Select and Gain Mode Select. Connect externally to AVDD for two's complement data format and 1 V p-p analog input range. Connect externally to AGND for Offset Binary data format and 1 V p-p analog input range. (See Datasheet)", 3 REFSENSE (in) "Reference Mode Select Pin for the ADC. This pin is normally connected externally to AGND, which enables the internal 1.25 V reference, and configures REF (Pin 4) as an analog reference output pin. Connecting REFSENSE (See Datasheet)", 4 REF (io) "Reference input or output as configured by REFSENSE (Pin 3). When configured as an output (REFSENSE = AGND), the internal reference (nominally 1.25 V) is enabled and is available to the user on this pin. When configured as (See Datasheet)", 5 AGND (power) "Analog Ground", 6 AVDD (power) "Analog Power Supply, Nominally 3 V", 7 AVDD (power) "Analog Power Supply, Nominally 3 V", 8 AGND (power) "Analog Ground", 9 AIN (in) "Positive terminal of the differential analog input for the ADC.", 10 ~{AIN} (in) "Negative terminal of the differential analog input for the ADC. This pin can be left open if operating in single-ended mode, but it is preferable to match the impedance seen at the positive terminal (see Driving the Analog (See Datasheet)", 11 AGND (power) "Analog Ground", 12 AVDD (power) "Analog Power Supply, Nominally 3 V", 13 ENCODE (in) "Encode Clock for the ADC. The AD9214 samples the analog signal on the rising edge of ENCODE.", 14 PWRDN (in) "CMOS-compatible power-down mode select, Logic LOW for normal operation; Logic HIGH for power-down mode (digital outputs in high impedance state). PWRDN has an internal 10 k ohm pull-down resistor to ground.", 15 DGND (power) "Digital Output Ground", 16 DRVDD (power) "Digital Output Driver Power Supply. Nominally 2.5 V to 3.6 V.", 17 D0 (LSB) (hiz) "CMOS Digital Outputs of ADC", 18 D1 (hiz) "CMOS Digital Outputs of ADC", 19 D2 (hiz) "CMOS Digital Outputs of ADC", 20 D3 (hiz) "CMOS Digital Outputs of ADC", 21 D4 (hiz) "CMOS Digital Outputs of ADC", 22 D5 (hiz) "CMOS Digital Outputs of ADC", 23 DGND (power) "Digital Output Ground", 24 DRVDD (power) "Digital Output Driver Power Supply. Nominally 2.5 V to 3.6 V.", 25 D6 (hiz) "CMOS Digital Outputs of ADC", 26 D7 (hiz) "CMOS Digital Outputs of ADC", 27 D8 (hiz) "CMOS Digital Outputs of ADC", 28 D9 (MSB) (hiz) "CMOS Digital Outputs of ADC"

## AD9214BRSZ-80
designator U?
Single 10-Bit Analog-to-Digital Converter with Parallel Interface, 80MSPS, -40 to +85 degC, RS-28, Pb-Free, Tube; Generic Part Number: AD9214-80; Manufacturer: Analog Devices; PartNumber: AD9214BRSZ-80; Resolution (Bits): 10; Channels: 1; Throughput Rate (SPS): 80M; Interface: Par; DatasheetVersion: Rev.D; PackageVersion: 060106-A; PackageReference: RS-28; PackageDescription: 28-Lead Shrink Small Outline Package [SSOP]; Supplier 1: Digi-Key; Supplier Part Number 1: AD9214BRSZ-80-ND; Supplier 2: Mouser; Supplier Part Number 2: 584-AD9214BRSZ-80; RoHS: Y; Packing: Tube; Mounting Technology: Surface Mount; Code_JEDEC: MO-150-AH; ComponentLink1Description: Manufacturer URL; ComponentLink1URL: http://www.analog.com/en/index.html; ComponentLink2Description: Datasheet; ComponentLink2URL: http://www.analog.com/static/imported-files/data_sheets/AD9214.pdf; ComponentLink3Description: Package Specification; ComponentLink3URL: http://www.analog.com/static/imported-files/packages/32122249223724RS_28.pdf; ComponentLink4Description: Product URL; ComponentLink4URL: http://www.analog.com/en/analog-to-digital-converters/ad-converters/ad9214/products/product.html
footprint RS-28_N (SOP, 28-Leads, Body 10.2x5.3mm, Pitch 0.65mm, IPC Medium Density)
footprint RS-28_L (SOP, 28-Leads, Body 10.2x5.3mm, Pitch 0.65mm, IPC High Density)
footprint RS-28_M (SOP, 28-Leads, Body 10.2x5.3mm, Pitch 0.65mm, IPC Low Density)
pins: 1 OR (out) "CMOS Output; Out-of-Range Indicator. Logic HIGH indicates the analog input voltage was outside the converter's range for the current output data.", 2 DFS/GAIN (in) "Data Format Select and Gain Mode Select. Connect externally to AVDD for two's complement data format and 1 V p-p analog input range. Connect externally to AGND for Offset Binary data format and 1 V p-p analog input range. (See Datasheet)", 3 REFSENSE (in) "Reference Mode Select Pin for the ADC. This pin is normally connected externally to AGND, which enables the internal 1.25 V reference, and configures REF (Pin 4) as an analog reference output pin. Connecting REFSENSE (See Datasheet)", 4 REF (io) "Reference input or output as configured by REFSENSE (Pin 3). When configured as an output (REFSENSE = AGND), the internal reference (nominally 1.25 V) is enabled and is available to the user on this pin. When configured as (See Datasheet)", 5 AGND (power) "Analog Ground", 6 AVDD (power) "Analog Power Supply, Nominally 3 V", 7 AVDD (power) "Analog Power Supply, Nominally 3 V", 8 AGND (power) "Analog Ground", 9 AIN (in) "Positive terminal of the differential analog input for the ADC.", 10 ~{AIN} (in) "Negative terminal of the differential analog input for the ADC. This pin can be left open if operating in single-ended mode, but it is preferable to match the impedance seen at the positive terminal (see Driving the Analog (See Datasheet)", 11 AGND (power) "Analog Ground", 12 AVDD (power) "Analog Power Supply, Nominally 3 V", 13 ENCODE (in) "Encode Clock for the ADC. The AD9214 samples the analog signal on the rising edge of ENCODE.", 14 PWRDN (in) "CMOS-compatible power-down mode select, Logic LOW for normal operation; Logic HIGH for power-down mode (digital outputs in high impedance state). PWRDN has an internal 10 k ohm pull-down resistor to ground.", 15 DGND (power) "Digital Output Ground", 16 DRVDD (power) "Digital Output Driver Power Supply. Nominally 2.5 V to 3.6 V.", 17 D0 (LSB) (hiz) "CMOS Digital Outputs of ADC", 18 D1 (hiz) "CMOS Digital Outputs of ADC", 19 D2 (hiz) "CMOS Digital Outputs of ADC", 20 D3 (hiz) "CMOS Digital Outputs of ADC", 21 D4 (hiz) "CMOS Digital Outputs of ADC", 22 D5 (hiz) "CMOS Digital Outputs of ADC", 23 DGND (power) "Digital Output Ground", 24 DRVDD (power) "Digital Output Driver Power Supply. Nominally 2.5 V to 3.6 V.", 25 D6 (hiz) "CMOS Digital Outputs of ADC", 26 D7 (hiz) "CMOS Digital Outputs of ADC", 27 D8 (hiz) "CMOS Digital Outputs of ADC", 28 D9 (MSB) (hiz) "CMOS Digital Outputs of ADC"

## AD9214BRSZ-105
designator U?
Single 10-Bit Analog-to-Digital Converter with Parallel Interface, 105MSPS, -40 to +85 degC, RS-28, Pb-Free, Tube; Generic Part Number: AD9214-105; Manufacturer: Analog Devices; PartNumber: AD9214BRSZ-105; Resolution (Bits): 10; Channels: 1; Throughput Rate (SPS): 105M; Interface: Par; DatasheetVersion: Rev.D; PackageVersion: 060106-A; PackageReference: RS-28; PackageDescription: 28-Lead Shrink Small Outline Package [SSOP]; Supplier 1: Digi-Key; Supplier Part Number 1: AD9214BRSZ-105-ND; Supplier 2: Newark; Supplier Part Number 2: 82H3054; Supplier 3: Mouser; Supplier Part Number 3: 584-AD9214BRSZ-105; RoHS: Y; Packing: Tube; Mounting Technology: Surface Mount; Code_JEDEC: MO-150-AH; ComponentLink1Description: Manufacturer URL; ComponentLink1URL: http://www.analog.com/en/index.html; ComponentLink2Description: Datasheet; ComponentLink2URL: http://www.analog.com/static/imported-files/data_sheets/AD9214.pdf; ComponentLink3Description: Package Specification; ComponentLink3URL: http://www.analog.com/static/imported-files/packages/32122249223724RS_28.pdf; ComponentLink4Description: Product URL; ComponentLink4URL: http://www.analog.com/en/analog-to-digital-converters/ad-converters/ad9214/products/product.html
footprint RS-28_N (SOP, 28-Leads, Body 10.2x5.3mm, Pitch 0.65mm, IPC Medium Density)
footprint RS-28_L (SOP, 28-Leads, Body 10.2x5.3mm, Pitch 0.65mm, IPC High Density)
footprint RS-28_M (SOP, 28-Leads, Body 10.2x5.3mm, Pitch 0.65mm, IPC Low Density)
pins: 1 OR (out) "CMOS Output; Out-of-Range Indicator. Logic HIGH indicates the analog input voltage was outside the converter’s range for the current output data.", 2 DFS/GAIN (in) "Data Format Select and Gain Mode Select. Connect externally to AVDD for two’s complement data format and 1 V p-p analog input range. Connect externally to AGND for Offset Binary data format and 1 V p-p analog input range. (See Datasheet)", 3 REFSENSE (in) "Reference Mode Select Pin for the ADC. This pin is normally connected externally to AGND, which enables the internal 1.25 V reference, and configures REF (Pin 4) as an analog reference output pin. Connecting REFSENSE (See Datasheet)", 4 REF (io) "Reference input or output as configured by REFSENSE (Pin 3). When configured as an output (REFSENSE = AGND), the internal reference (nominally 1.25 V) is enabled and is available to the user on this pin. When configured as (See Datasheet)", 5 AGND (power) "Analog Ground", 6 AVDD (power) "Analog Power Supply, Nominally 3 V", 7 AVDD (power) "Analog Power Supply, Nominally 3 V", 8 AGND (power) "Analog Ground", 9 AIN (in) "Positive terminal of the differential analog input for the ADC.", 10 ~{AIN} (in) "Negative terminal of the differential analog input for the ADC. This pin can be left open if operating in single-ended mode, but it is preferable to match the impedance seen at the positive terminal (see Driving the Analog (See Datasheet)", 11 AGND (power) "Analog Ground", 12 AVDD (power) "Analog Power Supply, Nominally 3 V", 13 ENCODE (in) "Encode Clock for the ADC. The AD9214 samples the analog signal on the rising edge of ENCODE.", 14 PWRDN (in) "CMOS-compatible power-down mode select, Logic LOW for normal operation; Logic HIGH for power-down mode (digital outputs in high impedance state). PWRDN has an internal 10 kO pull-down resistor to ground.", 15 DGND (power) "Digital Output Ground", 16 DRVDD (power) "Digital Output Driver Power Supply. Nominally 2.5 V to 3.6 V.", 17 D0 (hiz) "CMOS Digital Outputs of ADC", 18 D1 (hiz) "CMOS Digital Outputs of ADC", 19 D2 (hiz) "CMOS Digital Outputs of ADC", 20 D3 (hiz) "CMOS Digital Outputs of ADC", 21 D4 (hiz) "CMOS Digital Outputs of ADC", 22 D5 (hiz) "CMOS Digital Outputs of ADC", 23 DGND (power) "Digital Output Ground", 24 DRVDD (power) "Digital Output Driver Power Supply. Nominally 2.5 V to 3.6 V.", 25 D6 (hiz) "CMOS Digital Outputs of ADC", 26 D7 (hiz) "CMOS Digital Outputs of ADC", 27 D8 (hiz) "CMOS Digital Outputs of ADC", 28 D9 (hiz) "CMOS Digital Outputs of ADC"

## AD9214BRSZ-RL65
designator U?
Single 10-Bit Analog-to-Digital Converter with Parallel Interface, 65MSPS, -40 to +85 degC, RS-28, Pb-Free, Reel; Generic Part Number: AD9214-65; Manufacturer: Analog Devices; PartNumber: AD9214BRSZ-RL65; Resolution (Bits): 10; Channels: 1; Throughput Rate (SPS): 65M; Interface: Par; DatasheetVersion: Rev.D; PackageVersion: 060106-A; PackageReference: RS-28; PackageDescription: 28-Lead Shrink Small Outline Package [SSOP]; Supplier 1: Digi-Key; Supplier Part Number 1: AD9214BRSZ-RL65-ND; Supplier 2: Mouser; Supplier Part Number 2: 584-AD9214BRSZ-R65; RoHS: Y; Packing: Reel; Mounting Technology: Surface Mount; Code_JEDEC: MO-150-AH; ComponentLink1Description: Manufacturer URL; ComponentLink1URL: http://www.analog.com/en/index.html; ComponentLink2Description: Datasheet; ComponentLink2URL: http://www.analog.com/static/imported-files/data_sheets/AD9214.pdf; ComponentLink3Description: Package Specification; ComponentLink3URL: http://www.analog.com/static/imported-files/packages/32122249223724RS_28.pdf; ComponentLink4Description: Product URL; ComponentLink4URL: http://www.analog.com/en/analog-to-digital-converters/ad-converters/ad9214/products/product.html
footprint RS-28_N (SOP, 28-Leads, Body 10.2x5.3mm, Pitch 0.65mm, IPC Medium Density)
footprint RS-28_L (SOP, 28-Leads, Body 10.2x5.3mm, Pitch 0.65mm, IPC High Density)
footprint RS-28_M (SOP, 28-Leads, Body 10.2x5.3mm, Pitch 0.65mm, IPC Low Density)
pins: 1 OR (out) "CMOS Output; Out-of-Range Indicator. Logic HIGH indicates the analog input voltage was outside the converter's range for the current output data.", 2 DFS/GAIN (in) "Data Format Select and Gain Mode Select. Connect externally to AVDD for two's complement data format and 1 V p-p analog input range. Connect externally to AGND for Offset Binary data format and 1 V p-p analog input range. (See Datasheet)", 3 REFSENSE (in) "Reference Mode Select Pin for the ADC. This pin is normally connected externally to AGND, which enables the internal 1.25 V reference, and configures REF (Pin 4) as an analog reference output pin. Connecting REFSENSE (See Datasheet)", 4 REF (io) "Reference input or output as configured by REFSENSE (Pin 3). When configured as an output (REFSENSE = AGND), the internal reference (nominally 1.25 V) is enabled and is available to the user on this pin. When configured as (See Datasheet)", 5 AGND (power) "Analog Ground", 6 AVDD (power) "Analog Power Supply, Nominally 3 V", 7 AVDD (power) "Analog Power Supply, Nominally 3 V", 8 AGND (power) "Analog Ground", 9 AIN (in) "Positive terminal of the differential analog input for the ADC.", 10 ~{AIN} (in) "Negative terminal of the differential analog input for the ADC. This pin can be left open if operating in single-ended mode, but it is preferable to match the impedance seen at the positive terminal (see Driving the Analog (See Datasheet)", 11 AGND (power) "Analog Ground", 12 AVDD (power) "Analog Power Supply, Nominally 3 V", 13 ENCODE (in) "Encode Clock for the ADC. The AD9214 samples the analog signal on the rising edge of ENCODE.", 14 PWRDN (in) "CMOS-compatible power-down mode select, Logic LOW for normal operation; Logic HIGH for power-down mode (digital outputs in high impedance state). PWRDN has an internal 10 k ohm pull-down resistor to ground.", 15 DGND (power) "Digital Output Ground", 16 DRVDD (power) "Digital Output Driver Power Supply. Nominally 2.5 V to 3.6 V.", 17 D0 (LSB) (hiz) "CMOS Digital Outputs of ADC", 18 D1 (hiz) "CMOS Digital Outputs of ADC", 19 D2 (hiz) "CMOS Digital Outputs of ADC", 20 D3 (hiz) "CMOS Digital Outputs of ADC", 21 D4 (hiz) "CMOS Digital Outputs of ADC", 22 D5 (hiz) "CMOS Digital Outputs of ADC", 23 DGND (power) "Digital Output Ground", 24 DRVDD (power) "Digital Output Driver Power Supply. Nominally 2.5 V to 3.6 V.", 25 D6 (hiz) "CMOS Digital Outputs of ADC", 26 D7 (hiz) "CMOS Digital Outputs of ADC", 27 D8 (hiz) "CMOS Digital Outputs of ADC", 28 D9 (MSB) (hiz) "CMOS Digital Outputs of ADC"